# Altium footprint library SRR4028-470Y.PcbLib: 1 footprints
Each footprint in its own frame and in the unit in brackets; x right, y up, seen from the top. Pads: shape width x height; smd on the part's side, far side on the other; paste and mask are expansions set on the pad; w line width, h text height; cw(c..) or ccw(c..) is an arc to the next point about the centre after c.
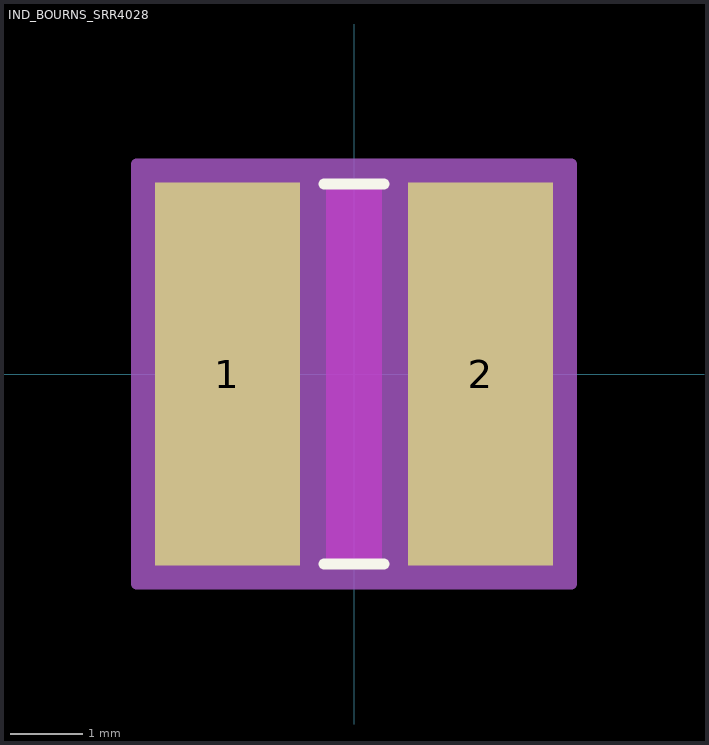
[diagram p0: the footprint, top view; thin cyan lines are the x and y axes]

## IND_BOURNS_SRR4028 [mil]
pads (2):
  rect 79x209 smd paste+0 mask+0: 1(-69,0) 2(69,0)
Top Layer keep-out:
  region: -15,-102.5 -15,102.5 15,102.5 15,-102.5
Top Overlay:
  lines w6: -16.4,-103.5 16.4,-103.5 ; -16.4,103.5 16.4,103.5
Mechanical 13:
  lines w1: -98.5,-98.5 -98.5,98.5 98.5,98.5 98.5,-98.5 -98.5,-98.5
Mechanical 15:
  region: -108.5,-114.5 -118.5,-114.5 -118.5,114.5 -108.5,114.5 108.5,114.5 118.5,114.5 118.5,-114.5 108.5,-114.5
  lines w6: -118.5,-114.5 -108.5,-114.5 108.5,-114.5 118.5,-114.5 118.5,114.5 108.5,114.5 -108.5,114.5 -118.5,114.5 -118.5,-114.5
3D body "IND_BOURNS_SRR4028.step": height 118.11, standoff -0.12, extent -98.5,-98.58 98.5,98.58